# Altium footprint library a_Valider_PA.PcbLib: 6 footprints
Each footprint in its own frame and in the unit in brackets; x right, y up, seen from the top. Pads: shape width x height; smd on the part's side, far side on the other; paste and mask are expansions set on the pad; w line width, h text height; cw(c..) or ccw(c..) is an arc to the next point about the centre after c.
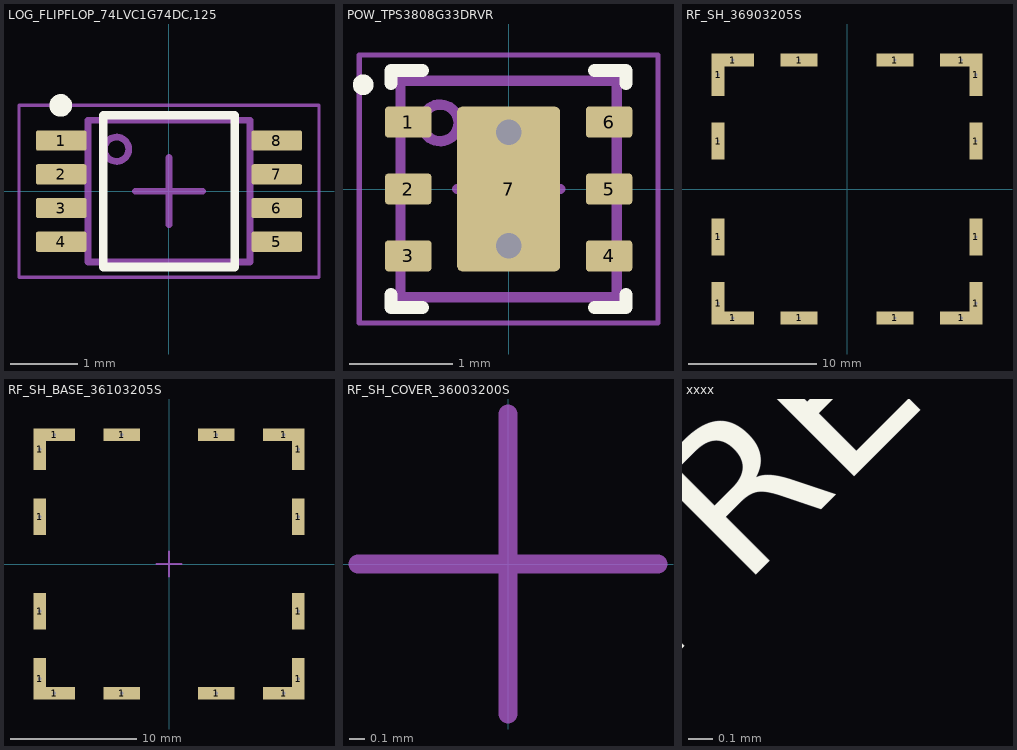
[diagram p0: the footprints below, top view; thin cyan lines are the x and y axes]

## LOG_FLIPFLOP_74LVC1G74DC,125 [mm] "VSSOP8"
height 1
pads (8):
  rrect20% 0.75x0.3 smd paste-0.05 mask+0.045: 1(-1.6,0.75) 2(-1.6,0.25) 3(-1.6,-0.25) 4(-1.6,-0.75) 5(1.6,-0.75) 6(1.6,-0.25) 7(1.6,0.25) 8(1.6,0.75)
Top Overlay:
  circle w0.2: c-1.606,1.272 r0.067
  lines w0.127: -0.975,-1.125 0.975,-1.125 0.975,1.125 -0.975,1.125 -0.975,-1.125
Top Assembly Drawing:
  circle w0.1: c-0.778,0.622 r0.18
  lines w0.1: -1.2,-1.05 -1.2,1.05 1.2,1.05 1.2,-1.05 -1.2,-1.05
Top Courtyard:
  lines w0.05: -2.225,-1.275 2.225,-1.275 2.225,1.275 -2.225,1.275 -2.225,-1.275
  lines w0.1: -0.5,0 0.5,0 ; 0,-0.5 0,0.5
3D body "SOP127P600-8N.step": height 1, standoff 0, extent -1.549,-0.95 1.549,0.95

## POW_TPS3808G33DRVR [mm] "6-WSON"
height 0.8
pads (7):
  rrect20% 0.45x0.3 smd paste+0 mask+0.07: 1(-0.975,0.65) 2(-0.975,0) 3(-0.975,-0.65) 4(0.975,-0.65) 5(0.975,0) 6(0.975,0.65)
  rrect10% 1x1.6 smd paste-1.6 mask+0.07: 7(0,0)
via 0,0.55 diameter 0.45 hole 0.25
via 0,-0.55 diameter 0.45 hole 0.25
Top Overlay:
  circle w0.1: c-1.413,1.012 r0.05
  lines w0.127: -1.141,-1.025 -1.141,-1.15 -0.836,-1.15 ; -1.141,1.025 -1.141,1.15 -0.836,1.15 ; 0.836,-1.15 1.141,-1.15 1.141,-1.025 ; 0.836,1.15 1.141,1.15 1.141,1.025
Top Paste:
  region: -0.5,-0.1 -0.5,-0.749 -0.5,-0.759 -0.492,-0.778 -0.478,-0.792 -0.459,-0.8 -0.449,-0.8 0.449,-0.8 0.459,-0.8 0.478,-0.793 0.492,-0.778 0.499,-0.76 0.499,-0.75 0.499,-0.1
  region: 0.5,0.1 0.5,0.749 0.5,0.759 0.492,0.778 0.478,0.792 0.459,0.8 0.449,0.8 -0.449,0.8 -0.459,0.8 -0.478,0.793 -0.492,0.778 -0.499,0.76 -0.499,0.75 -0.499,0.1
Top Assembly Drawing:
  circle w0.1: c-0.665,0.642 r0.178
  lines w0.1: -1.05,-1.05 -1.05,1.05 1.05,1.05 1.05,-1.05 -1.05,-1.05
Top Courtyard:
  lines w0.05: -1.45,-1.3 -1.45,1.3 1.45,1.3 1.45,-1.3 -1.45,-1.3
  lines w0.1: -0.5,0 0.5,0 ; 0,-0.5 0,0.5
3D body "SON65P200X80_HS-7N.step": height 0.8, standoff 0, extent -1.051,-1.05 1.051,1.05

## RF_SH_36903205S [mm] "RF shield 20x20x3.2"
pads (16):
  rect 1x3.3 smd paste-0.1 mask+0.05: 1(-10.1,-8.95) 1(-10.1,8.95) 1(10.1,-8.95) 1(10.1,8.95)
  rect 1x2.9 smd paste-0.1 mask+0.05: 1(-10.1,-3.75) 1(-10.1,3.75) 1(10.1,-3.75) 1(10.1,3.75)
  rect 3.3x1 smd paste-0.1 mask+0.05: 1(-8.95,-10.1) 1(-8.95,10.1) 1(8.95,-10.1) 1(8.95,10.1)
  rect 2.9x1 smd paste-0.1 mask+0.05: 1(-3.75,-10.1) 1(-3.75,10.1) 1(3.75,-10.1) 1(3.75,10.1)
via 10.1,3.75 diameter 0.45 hole 0.25
via 3.75,10.1 diameter 0.45 hole 0.25
via 8.95,10.1 diameter 0.45 hole 0.25
via 10.1,8.95 diameter 0.45 hole 0.25
via -3.75,10.1 diameter 0.45 hole 0.25
via -10.1,3.75 diameter 0.45 hole 0.25
via -10.1,8.95 diameter 0.45 hole 0.25
via -8.95,10.1 diameter 0.45 hole 0.25
via -10.1,-3.75 diameter 0.45 hole 0.25
via -3.75,-10.1 diameter 0.45 hole 0.25
via -8.95,-10.1 diameter 0.45 hole 0.25
via -10.1,-8.95 diameter 0.45 hole 0.25
via 3.75,-10.1 diameter 0.45 hole 0.25
via 10.1,-3.75 diameter 0.45 hole 0.25
via 10.1,-8.95 diameter 0.45 hole 0.25
via 8.95,-10.1 diameter 0.45 hole 0.25
3D body "Download_STP_WE-SHC-36903205S (rev1).stp": height 3.2, standoff 0, extent -10.2,-10.2 10.2,10.2

## RF_SH_BASE_36103205S [mm] "RF shield 20x20x3 base"
height 3
pads (16):
  rect 1x3.3 smd paste-0.1 mask+0.05: 1(-10.25,-9.1) 1(-10.25,9.1) 1(10.25,-9.1) 1(10.25,9.1)
  rect 1x2.9 smd paste-0.1 mask+0.05: 1(-10.25,3.75) 1(-10.25,-3.75) 1(10.25,-3.75) 1(10.25,3.75)
  rect 3.3x1 smd paste-0.1 mask+0.05: 1(-9.1,-10.25) 1(-9.1,10.25) 1(9.1,-10.25) 1(9.1,10.25)
  rect 2.9x1 smd paste-0.1 mask+0.05: 1(-3.75,10.25) 1(-3.75,-10.25) 1(3.75,-10.25) 1(3.75,10.25)
via 10.25,3.75 diameter 0.45 hole 0.25
via 3.75,10.25 diameter 0.45 hole 0.25
via 9.1,10.25 diameter 0.45 hole 0.25
via 10.25,9.1 diameter 0.45 hole 0.25
via -3.75,10.25 diameter 0.45 hole 0.25
via -10.25,3.75 diameter 0.45 hole 0.25
via -10.25,9.1 diameter 0.45 hole 0.25
via -9.1,10.25 diameter 0.45 hole 0.25
via -10.25,-3.75 diameter 0.45 hole 0.25
via -3.75,-10.25 diameter 0.45 hole 0.25
via -9.1,-10.25 diameter 0.45 hole 0.25
via -10.25,-9.1 diameter 0.45 hole 0.25
via 3.75,-10.25 diameter 0.45 hole 0.25
via 10.25,-3.75 diameter 0.45 hole 0.25
via 10.25,-9.1 diameter 0.45 hole 0.25
via 9.1,-10.25 diameter 0.45 hole 0.25
Top Courtyard:
  lines w0.127: -1,0 1,0 ; 0,-1 0,1
3D body "Download_STP_WE-SHC-36103205S (rev1).stp": height 3.2, standoff 0, extent -10.2,-10.2 10.2,10.2

## RF_SH_COVER_36003200S [mm] "RF shield 21x21x3 cover"
height 3.1
Top Courtyard:
  lines w0.127: -1,0 1,0 ; 0,-1 0,1
3D body "Download_STP_WE-SHC-36003200S (rev1).stp": height 3.3, standoff 0.1, extent -10.45,-10.45 10.45,10.45

## xxxx [mm]
Top Layer:
  text "c" at 27.769,13.105 h2.51
  text "o" at 26.625,13.105 h2.51
  text "D" at 24.971,13.106 h2.51
  text "h" at 23.826,13.106 h2.51
  text "c" at 22.809,13.105 h2.51
  text "S" at 21.579,13.108 h2.51
  text "." at 20.985,13.105 h2.51
  text "P" at 19.968,13.106 h2.51
  text "O" at 18.314,13.108 h2.51
  text "T" at 16.957,13.106 h2.51
  text "_" at 15.813,13.109 h2.51
  text "D" at 14.159,13.106 h2.51
  text "R" at 12.633,13.106 h2.51
  text "A" at 11.024,13.106 h2.51
  text "O" at 9.368,13.108 h2.51
  text "B" at 7.841,13.106 h2.51
  text "_" at 6.697,13.109 h2.51
  text "E" at 5.297,13.106 h2.51
  text "V" at 3.644,13.108 h2.51
  text "I" at 2.923,13.106 h2.51
  text "H" at 1.269,13.106 h2.51
  text "P" at 4.28,15.65 h2.51
  text "O" at 2.626,15.652 h2.51
  text "T" at 1.269,15.65 h2.51
  text "c" at 27.769,13.105 h2.51
  text "o" at 26.625,13.105 h2.51
  text "D" at 24.971,13.106 h2.51
  text "h" at 23.826,13.106 h2.51
  text "c" at 22.809,13.105 h2.51
  text "S" at 21.579,13.108 h2.51
  text "." at 20.985,13.105 h2.51
  text "P" at 19.968,13.106 h2.51
  text "O" at 18.314,13.108 h2.51
  text "T" at 16.957,13.106 h2.51
  text "_" at 15.813,13.109 h2.51
  text "D" at 14.159,13.106 h2.51
  text "R" at 12.633,13.106 h2.51
  text "A" at 11.024,13.106 h2.51
  text "O" at 9.368,13.108 h2.51
  text "B" at 7.841,13.106 h2.51
  text "_" at 6.697,13.109 h2.51
  text "E" at 5.297,13.106 h2.51
  text "V" at 3.644,13.108 h2.51
  text "I" at 2.923,13.106 h2.51
  text "H" at 1.269,13.106 h2.51
  text "P" at 4.28,15.65 h2.51
  text "O" at 2.626,15.652 h2.51
  text "T" at 1.269,15.65 h2.51
Top Overlay:
  text "PRELIMINARY" at -2.464,-2.997 h1.25